# Altium footprint library Inductors.PcbLib: 25 footprints (part 1 of 2)
Each footprint in its own frame and in the unit in brackets; x right, y up, seen from the top. Pads: shape width x height; smd on the part's side, far side on the other; paste and mask are expansions set on the pad; w line width, h text height; cw(c..) or ccw(c..) is an arc to the next point about the centre after c.
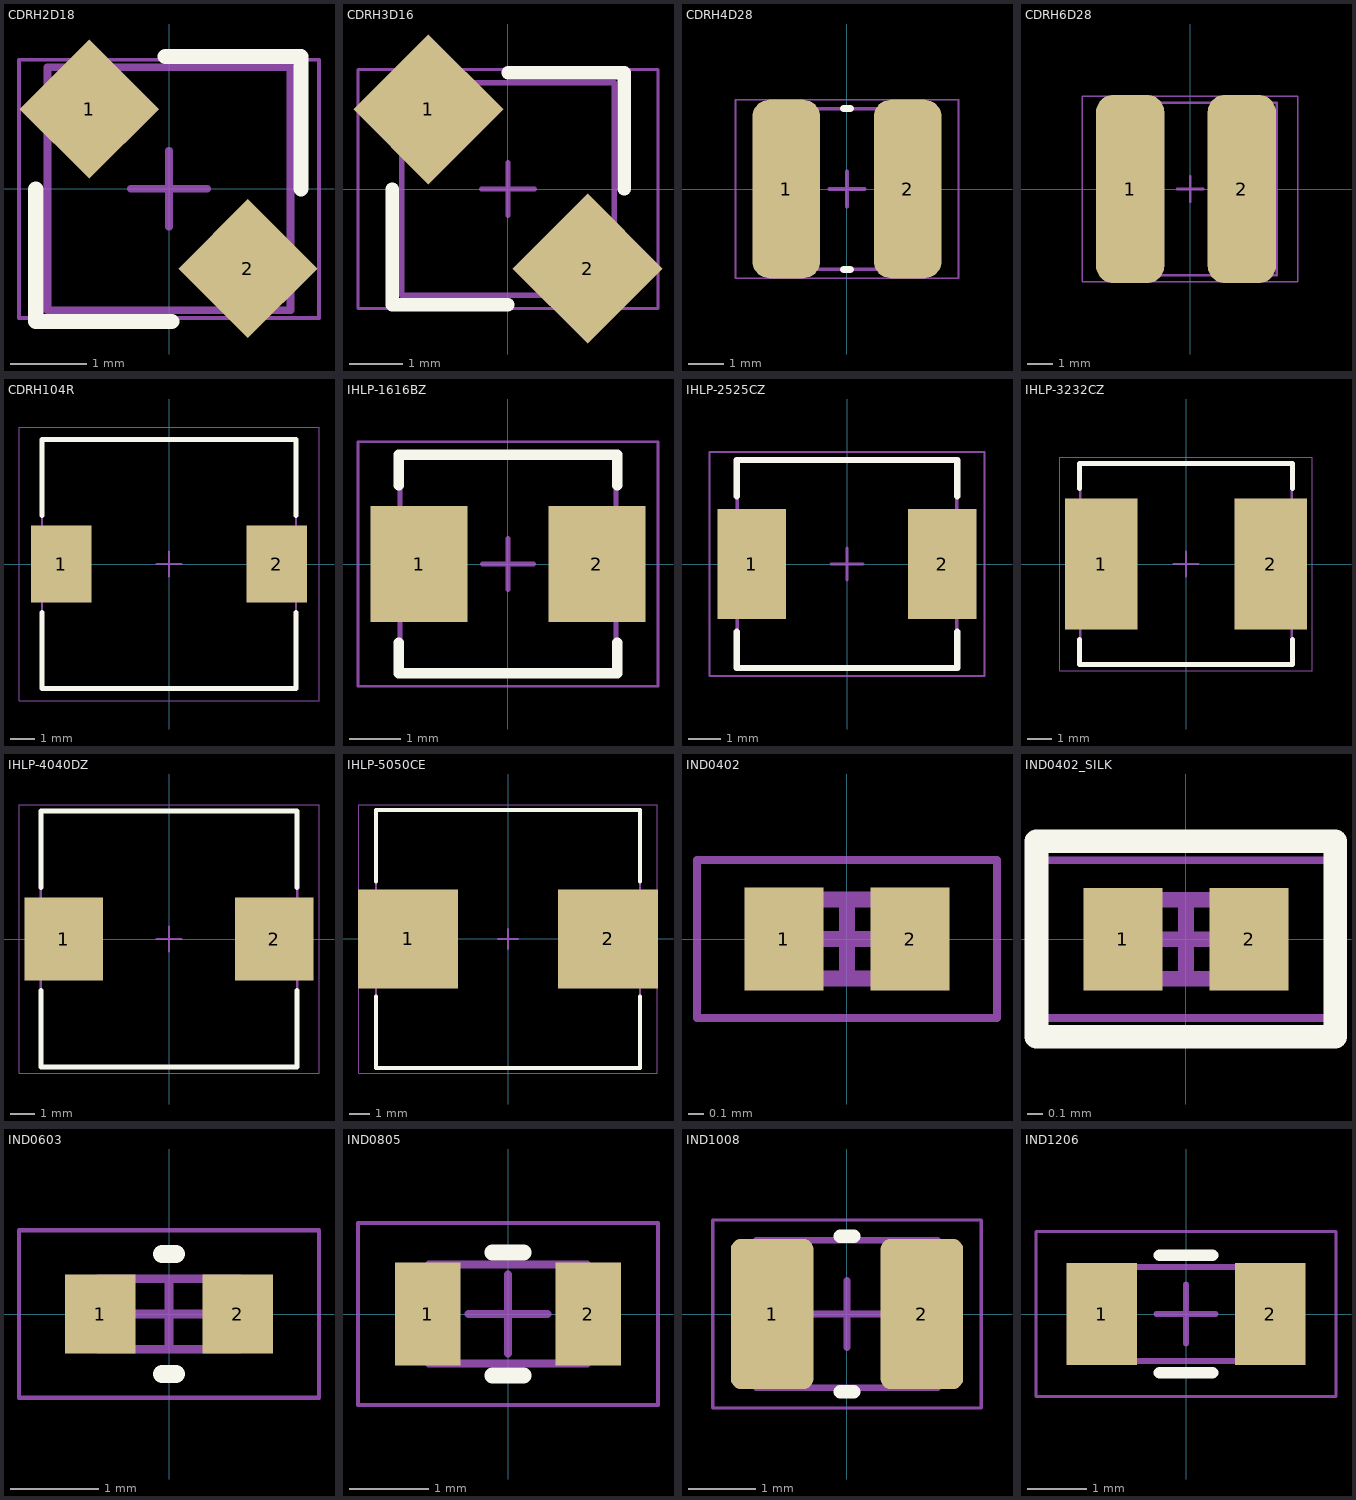
[diagram p0: the footprints below, top view; thin cyan lines are the x and y axes]

## CDRH2D18 [mm] "Wire Wound Inductor, 2-Leads, Body 3,00x3,00mm, IPC High Density"
height 2
pads (2):
  rect 1.3x1.3 smd rot 45 mask+0.05: 1(-1.05,1.05) 2(1.04,-1.05)
Top Overlay:
  lines w0.2: -1.754,-0.006 -1.754,-1.746 0.036,-1.746 ; -0.05,1.74 1.74,1.74 1.74,0
Mechanical 13:
  lines w0.1: -1.6,-1.6 -1.6,1.6 1.6,1.6 1.6,-1.6 -1.6,-1.6
Mechanical 15:
  lines w0.05: -1.975,-1.7 -1.975,1.7 1.975,1.7 1.975,-1.7 -1.975,-1.7
  lines w0.1: -0.5,0 0.5,0 ; 0,-0.5 0,0.5
3D body "User Library-CDRH2D18-1.step": height 2.05, standoff 0, extent -1.6,-1.6 1.6,1.6

## CDRH3D16 [mm] "Wire Wound Inductor, 2-Leads, Body 3,90x3,90mm, IPC Medium Density"
height 1.8
pads (2):
  rect 2x2 smd rot 135: 1(-1.5,1.5) 2(1.5,-1.5)
Top Overlay:
  lines w0.254: -2.18,0 -2.18,-2.18 0,-2.18 ; 0,2.19 2.19,2.19 2.19,0
Mechanical 13:
  lines w0.1: -2,-2 -2,2 2,2 2,-2 -2,-2
Mechanical 15:
  lines w0.05: -2.825,-2.25 -2.825,2.25 2.825,2.25 2.825,-2.25 -2.825,-2.25
  lines w0.1: -0.5,0 0.5,0 ; 0,-0.5 0,0.5
3D body "User Library-cdrh3d18.step": height 2, standoff 0, extent -2.02,-2.02 2.02,2.02

## CDRH4D28 [mm] "SMD Power Inductor CDRH4D28"
height 3
pads (2):
  rrect50% 1.9x5 smd: 1(-1.7,0) 2(1.7,0)
Top Overlay:
  lines w0.2: -0.1,-2.25 0.1,-2.25 ; -0.1,2.25 0.1,2.25
Mechanical 13:
  lines w0.1: -2.25,-2.25 -2.25,2.25 2.25,2.25 2.25,-2.25 -2.25,-2.25
Mechanical 15:
  lines w0.05: -3.125,-2.5 -3.125,2.5 3.125,2.5 3.125,-2.5 -3.125,-2.5
  lines w0.1: -0.5,0 0.5,0 ; 0,-0.5 0,0.5
3D body "INDP4545X30N.step": height 3.1, standoff 0, extent -2.35,-2.25 2.35,2.25

## CDRH6D28 [mm] "SMD Power Inductor CDRH6D28"
height 3
pads (2):
  rrect50% 2.65x7.3 smd: 1(-2.325,0) 2(2,0)
Mechanical 13:
  lines w0.1: -3.35,-3.35 3.35,-3.35 3.35,3.35 -3.35,3.35 -3.35,-3.35
Mechanical 15:
  lines w0.05: -4.175,-3.6 4.175,-3.6 4.175,3.6 -4.175,3.6 -4.175,-3.6
  lines w0.1: -0.5,0 0.5,0 ; 0,-0.5 0,0.5
3D body "User Library-CDRH6D28.step": height 3, standoff 0.1, extent -3.35,-3.35 3.35,3.35

## CDRH104R [mm] "SMD Power Inductor, 10.5x10.3x4.0mm max"
height 3.8
pads (2):
  rect 2.5x3.2 smd: 1(-4.45,0) 2(4.45,0)
Top Overlay:
  lines w0.2: -5.25,-2 -5.25,-5.15 5.25,-5.15 5.25,-2 ; -5.25,2 -5.25,5.15 5.25,5.15 5.25,2
Mechanical 13:
  lines w0.1: -5.25,-5.15 -5.25,5.15 5.25,5.15 5.25,-5.15 -5.25,-5.15
Mechanical 15:
  lines w0.05: -6.2,-5.65 -6.2,5.65 6.2,5.65 6.2,-5.65 -6.2,-5.65
  lines w0.1: -0.5,0 0.5,0 ; 0,-0.5 0,0.5
3D body "CDRH104R.step": height 3.9, standoff 0, extent -5.275,-5.075 5.275,5.075

## IHLP-1616BZ [mm] "IHLP-1616BZ Inductor, 2-Leads, Body 4.13x4.13mm, IPC Medium Density"
height 2
pads (2):
  rect 1.9x2.286 smd: 1(-1.75,0) 2(1.75,0)
Top Overlay:
  lines w0.2: -2.15,-1.543 -2.15,-2.15 2.15,-2.15 2.15,-1.543 ; -2.15,1.543 -2.15,2.15 2.15,2.15 2.15,1.543
Mechanical 13:
  lines w0.1: -2.125,-2.125 -2.125,2.125 2.125,2.125 2.125,-2.125 -2.125,-2.125
Mechanical 15:
  lines w0.05: -2.95,-2.4 -2.95,2.4 2.95,2.4 2.95,-2.4 -2.95,-2.4
  lines w0.1: -0.5,0 0.5,0 ; 0,-0.5 0,0.5
3D body "IHLP-1616BZ.step": height 2.1, standoff 0, extent -2.163,-2.063 2.163,2.063

## IHLP-2525CZ [mm] "Low-Profile, High-Current IHLP® Inductor"
height 3
pads (2):
  rect 2.15x3.429 smd: 1(-2.975,0) 2(2.975,0)
Top Overlay:
  lines w0.2: -3.45,-2.114 -3.45,-3.25 3.45,-3.25 3.45,-2.114 ; -3.45,2.114 -3.45,3.25 3.45,3.25 3.45,2.114
Mechanical 13:
  lines w0.1: -3.43,-3.235 -3.43,3.235 3.43,3.235 3.43,-3.235 -3.43,-3.235
Mechanical 15:
  lines w0.05: -4.3,-3.5 -4.3,3.5 4.3,3.5 4.3,-3.5 -4.3,-3.5
  lines w0.1: -0.5,0 0.5,0 ; 0,-0.5 0,0.5
3D body "IHLP2525CZ.STEP": height 2.89, standoff 0, extent -3.538,-3.3 3.538,3.37

## IHLP-3232CZ [mm] "IHLP® Commercial Inductors, Low DCR Series, Body 8,41x8,18mm, IPC Medium Density"
height 3
pads (2):
  rect 2.95x5.334 smd: 1(-3.45,0) 2(3.45,0)
Top Overlay:
  lines w0.2: -4.35,-3.067 -4.35,-4.1 4.35,-4.1 4.35,-3.067 ; -4.35,3.067 -4.35,4.1 4.35,4.1 4.35,3.067
Mechanical 13:
  lines w0.1: -4.32,-4.09 -4.32,4.09 4.32,4.09 4.32,-4.09 -4.32,-4.09
Mechanical 15:
  lines w0.05: -5.15,-4.35 -5.15,4.35 5.15,4.35 5.15,-4.35 -5.15,-4.35
  lines w0.1: -0.5,0 0.5,0 ; 0,-0.5 0,0.5
3D body "IHLP-3232CZ.step": height 3.1, standoff 0, extent -4.305,-4.09 4.305,4.09

## IHLP-4040DZ [mm] "Low Profile, High Current IHLP® Inductor, 2-Leads, Body 10,30x10,30mm, IPC Medium Density"
height 4
pads (2):
  rect 3.15x3.35 smd: 1(-4.225,0) 2(4.225,0)
Top Overlay:
  lines w0.2: -5.15,-2.075 -5.15,-5.15 5.15,-5.15 5.15,-2.075 ; -5.15,2.075 -5.15,5.15 5.15,5.15 5.15,2.075
Mechanical 13:
  lines w0.1: -5.15,-5.15 -5.15,5.15 5.15,5.15 5.15,-5.15 -5.15,-5.15
Mechanical 15:
  lines w0.05: -6.025,-5.4 -6.025,5.4 6.025,5.4 6.025,-5.4 -6.025,-5.4
  lines w0.1: -0.5,0 0.5,0 ; 0,-0.5 0,0.5
3D body "IHLP-4040DZ.step": height 4.1, standoff 0, extent -5.25,-5.15 5.25,5.15

## IHLP-5050CE [mm]
height 3.5
pads (2):
  rect 5x4.95 smd: 1(-5,0) 2(5,0)
Top Overlay:
  lines w0.2: -6.6,-2.875 -6.6,-6.45 6.6,-6.45 6.6,-2.875 ; -6.6,2.875 -6.6,6.45 6.6,6.45 6.6,2.875
Mechanical 13:
  lines w0.1: -6.6,-6.45 6.6,-6.45 6.6,6.45 -6.6,6.45 -6.6,-6.45
Mechanical 15:
  lines w0.05: -7.475,-6.7 7.475,-6.7 7.475,6.7 -7.475,6.7 -7.475,-6.7
  lines w0.1: -0.5,0 0.5,0 ; 0,-0.5 0,0.5
3D body "52687.stp": height 3.39, standoff 0, extent -6.552,-6.361 6.611,6.395

## IND0402 [mm] "Chip Inductor, 2-Leads, Body 1.00x0.50mm, IPC Medium Density"
height 0.5
pads (2):
  rect 0.5x0.65 smd mask+0.05: 1(-0.4,0) 2(0.4,0)
Mechanical 13:
  lines w0.1: -0.5,-0.25 -0.5,0.25 0.5,0.25 0.5,-0.25 -0.5,-0.25
Mechanical 15:
  lines w0.05: -0.95,-0.5 -0.95,0.5 0.95,0.5 0.95,-0.5 -0.95,-0.5
  lines w0.1: -0.25,0 0.25,0 ; 0,-0.25 0,0.25
3D body "IND0402.step": height 0.5, standoff 0, extent -0.5,-0.25 0.5,0.25

## IND0402_SILK [mm] "Chip Inductor, 2-Leads, Body 1.00x0.50mm, IPC Medium Density"
height 0.5
pads (2):
  rect 0.5x0.65 smd mask+0.05: 1(-0.4,0) 2(0.4,0)
Top Overlay:
  lines w0.15: -0.947,-0.618 0.945,-0.618 0.945,0.621 -0.947,0.621 -0.947,-0.618
Mechanical 13:
  lines w0.1: -0.5,-0.25 -0.5,0.25 0.5,0.25 0.5,-0.25 -0.5,-0.25
Mechanical 15:
  lines w0.05: -0.95,-0.5 -0.95,0.5 0.95,0.5 0.95,-0.5 -0.95,-0.5
  lines w0.1: -0.25,0 0.25,0 ; 0,-0.25 0,0.25
3D body "IND0402.step": height 0.5, standoff 0, extent -0.5,-0.25 0.5,0.25

## IND0603 [mm] "Chip Inductor, 2-Leads, Body 1.60x0.80mm, IPC Medium Density"
height 0.8
pads (2):
  rect 0.8x0.9 smd mask+0.05: 1(-0.78,0) 2(0.78,0)
Top Overlay:
  lines w0.2: -0.08,-0.68 0.08,-0.68 ; -0.08,0.68 0.08,0.68
Mechanical 13:
  lines w0.1: -0.8,-0.4 -0.8,0.4 0.8,0.4 0.8,-0.4 -0.8,-0.4
Mechanical 15:
  lines w0.05: -1.7,-0.95 -1.7,0.95 1.7,0.95 1.7,-0.95 -1.7,-0.95
  lines w0.1: -0.4,0 0.4,0 ; 0,-0.4 0,0.4
3D body "INDC1608X08N.step": height 0.8, standoff 0, extent -0.8,-0.4 0.8,0.4

## IND0805 [mm] "Chip Inductor, 2-Leads, Body 2.00x1.25mm, IPC Medium Density"
height 1
pads (2):
  rect 0.83x1.3 smd mask+0.05: 1(-1.015,0) 2(1.015,0)
Top Overlay:
  lines w0.2: -0.2,-0.78 0.2,-0.78 ; -0.2,0.78 0.2,0.78
Mechanical 13:
  lines w0.1: -1,-0.625 -1,0.625 1,0.625 1,-0.625 -1,-0.625
Mechanical 15:
  lines w0.05: -1.9,-1.15 -1.9,1.15 1.9,1.15 1.9,-1.15 -1.9,-1.15
  lines w0.1: -0.5,0 0.5,0 ; 0,-0.5 0,0.5
3D body "IND0805_.step": height 1, standoff 0, extent -1,-0.625 1,0.625

## IND1008 [mm] "Chip Inductor, 2-Leads, Body 2.60x2.10mm, IPC Medium Density"
height 1.2
pads (2):
  rrect25% 1.23x2.24 smd: 1(-1.115,0) 2(1.115,0)
Top Overlay:
  lines w0.2: -0.1,-1.16 0.1,-1.16 ; -0.1,1.16 0.1,1.16
Mechanical 13:
  lines w0.1: -1.35,-1.1 -1.35,1.1 1.35,1.1 1.35,-1.1 -1.35,-1.1
Mechanical 15:
  lines w0.05: -2,-1.4 -2,1.4 2,1.4 2,-1.4 -2,-1.4
  lines w0.1: -0.5,0 0.5,0 ; 0,-0.5 0,0.5
3D body "IND1008_.step": height 1.2, standoff 0, extent -1.35,-1.1 1.35,1.1

## IND1206 [mm] "Chip Inductor, 2-Leads, Body 3.20x1.60mm, IPC Medium Density"
height 1.1
pads (2):
  rect 1.2x1.74 smd mask+0.05: 1(-1.43,0) 2(1.43,0)
Top Overlay:
  lines w0.2: -0.45,-1 0.45,-1 ; -0.45,1 0.45,1
Mechanical 13:
  lines w0.1: -1.6,-0.8 -1.6,0.8 1.6,0.8 1.6,-0.8 -1.6,-0.8
Mechanical 15:
  lines w0.05: -2.55,-1.4 -2.55,1.4 2.55,1.4 2.55,-1.4 -2.55,-1.4
  lines w0.1: -0.5,0 0.5,0 ; 0,-0.5 0,0.5
3D body "INDC1206_.step": height 1.1, standoff 0, extent -1.6,-0.8 1.6,0.8